# Altium schematic symbol library Ahristi_Library.SchLib: 438 symbols (part 5 of 5)
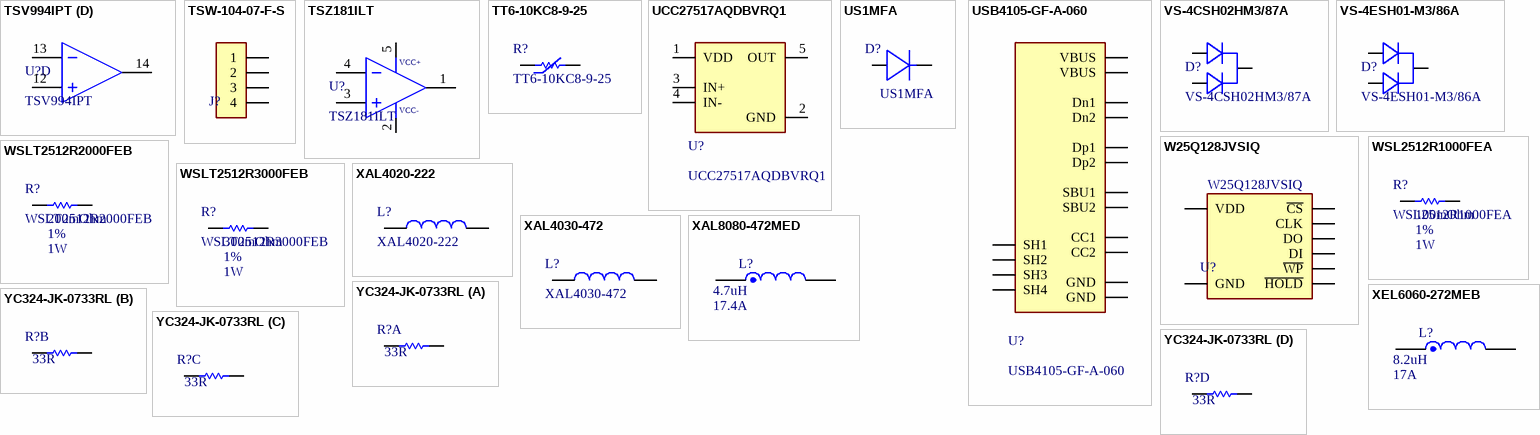
[diagram p16: symbols TSV994IPT to YC324-JK-0733RL]

## W25Q128JVSIQ
designator U?  Manufacturer Part Number: W25Q128JVSIQ
NOR Flash spiFlash, 3V, 128M-bit, 4Kb Uniform Sector; Min Supply Voltage: 2.7V; Max Supply Voltage: 3.6V; Active Read Current: 25mA; Max Frequency: 133MHz; Memory Size: 128Mb; Distributor Part Numbe: *; Minimum Operating Temperature: -40C; Max Operating Temperature: 80C; ComponentLink1Description: Datasheet; ComponentLink1URL: https://www.mouser.co.uk/datasheet/2/949/w25q128jv_revf_03272018_plus-1489608.pdf
footprint SOIC-8 (SOIC-8 Analog Devices Spec)
pins: 1 ~{CS}, 2 DO, 3 ~{WP}, 4 GND, 5 DI, 6 CLK, 7 ~{HOLD}, 8 VDD

## WSL2512R1000FEA
designator R?  Power: 1W  Tolerance: 1%  Resistance: 100mOhm
100 mOhms ±1% 1W Chip Resistor 2512 (6332 Metric) Anti-Sulfur, Automotive AEC-Q200, Current Sense, Moisture Resistant, Pulse Withstanding Metal Element; Distributor: Digikey; Distributor Part Number: WSLG-.10CT-ND; Operating Temperature: -65°C ~ 170°C; Package: 2512; Part Number: WSL2512R1000FEA
footprint WSLT2512R2000FEB (RESC2512)
pins: 1, 2

## WSLT2512R2000FEB
designator R?  Power: 1W  Tolerance: 1%  Resistance: 200mOhm
200 mOhms ±1% 1W Chip Resistor 2512 (6332 Metric) Anti-Sulfur, Automotive AEC-Q200, Current Sense, Moisture Resistant, Pulse Withstanding Metal Element; Distributor: Digikey; Distributor Part Number: 541-10376-1-ND; Operating Temperature: -65°C ~ 275°C; Package: 2512; Part Number: WSLT2512R2000FEB
footprint WSLT2512R2000FEB (RESC2512)
pins: 1, 2

## WSLT2512R3000FEB
designator R?  Power: 1W  Tolerance: 1%  Resistance: 300mOhm
300 mOhms ±1% 1W Chip Resistor 2512 (6332 Metric) Anti-Sulfur, Automotive AEC-Q200, Current Sense, Moisture Resistant, Pulse Withstanding Metal Element; Distributor: Digikey; Distributor Part Number: WSLTB-.300CT-ND; Operating Temperature: -65°C ~ 275°C; Package: 2512; Part Number: WSLT2512R3000FEB
footprint RESC2512
pins: 1, 2

## XAL4020-222
designator L?
Inductor 2.2uH 5.6A Shielded 38.7mOhm SMD; Current Rating: 4.0; Part Number: XAL4020-222; Distributor Part Number: XAL4020-222MEC; Distributor: Coilcraft; Saturation Current: 5.6A; DCR: 38.7mOhm; Inductance: 2.2uH
footprint XAL40xx (Coilcraft High Current Shielded Power Inductor)
pins: 1, 2

## XAL4030-472
designator L?
Inductor 4.7uH 5.6A Shielded 38.7mOhm SMD; Current Rating: 3.9; Saturation Current: 4.6A; DCR: 44.1; Part Number: XAL4030-472; Distributor Part Number: XAL4030-472MEC; Distributor: Coilcraft; Inductance: 4.7uH
footprint XAL40xx (Coilcraft High Current Shielded Power Inductor)
pins: 1, 2

## XAL8080-472MED
designator L?  Isat: 17.4A  Inductance: 4.7uH
4.7 µH Shielded Molded Inductor 17.4A 9.77mOhm Max Nonstandard; DCR: 9.8mOhm; Tolerance: 20%
footprint XAL8080 (4.7 µH Shielded Molded Inductor 14.6 A 9.77mOhm Max Nonstandard)
pins: 1, 2

## XEL6060-272MEB
designator L?  Isat: 17A  Inductance: 8.2uH
Power Inductors - SMD 2.7uH Shld 20% 17A 7.63mOhms AECQ2; DCR: 25mOhm; Tolerance: 20%
footprint XEL6060 (Shielded Power Inductors – XEL6060)
pins: 1, 2

## YC324-JK-0733RL
designator R?  Resistance: 33R  (hidden comment: YC324-JK-0733RL)
33 Ohm ±5% 125mW Power Per Element Isolated 4 Resistor Network/Array ±200ppm/°C 2012, Convex, Long Side Terminals; Manufacturer: YAGEO; Part Number: YC324-JK-0733RL; Tolerance: 5%; Distributor Part Number: YC324J-33CT-ND; Distributor: Digikey; Case Code: 2012
footprint YC324-JK-0733RL
part A pins: 1, 5
part B pins: 2, 6
part C pins: 3, 7
part D pins: 4, 8